# Altium schematic symbol library NCP1117LPST50T3G.Schlib: 1 symbol
Pins are listed as number, name and electrical type; pins without a type are passive.

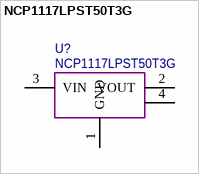
[diagram p0: symbol NCP1117LPST50T3G]

## NCP1117LPST50T3G
designator U?
Low-Dropout Positive Voltage Regulator
pins: 1 GND (power), 2 VOUT (power), 3 VIN (power), 4 VOUT (power)